# Altium integrated library Microchip dsPIC30F.IntLib: 283 symbols (part 7 of 14)
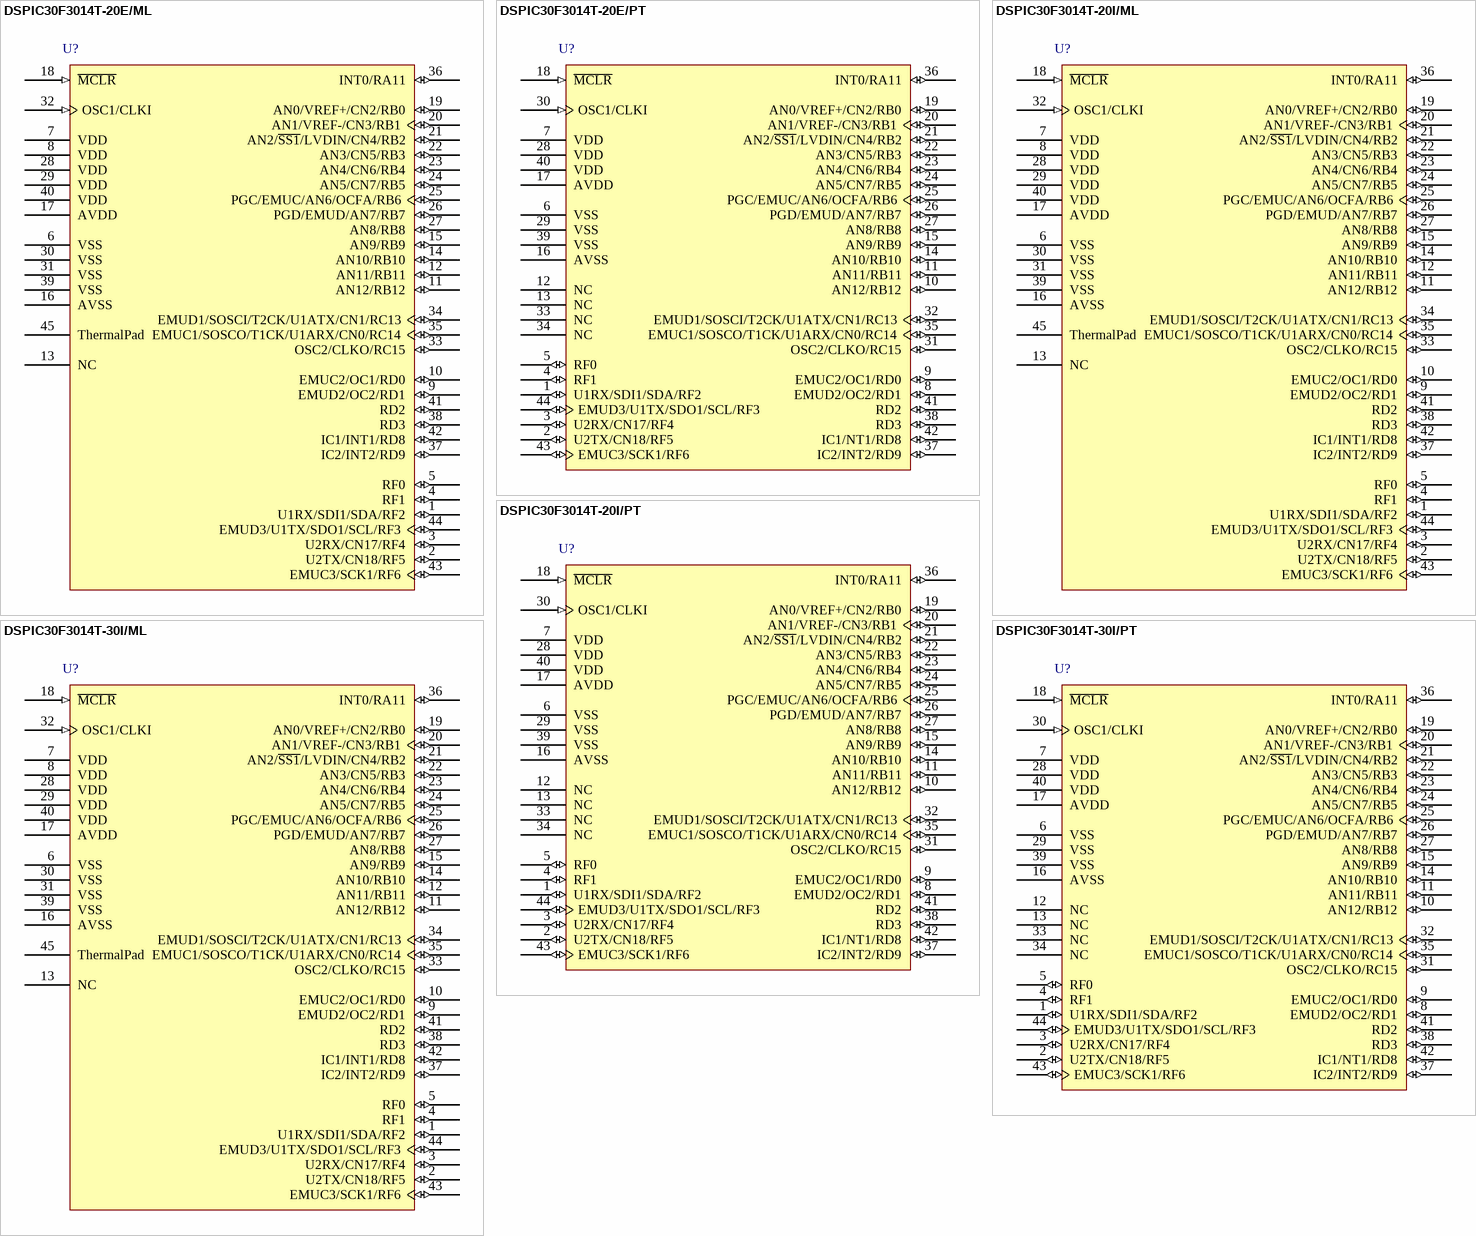
[diagram p53: symbols DSPIC30F3014T-20E/ML to DSPIC30F3014T-30I/PT]

## DSPIC30F3014T-20I/PT
designator U?
High-Performance 16-bit Digital Signal Controller, 24 KB Flash, 2 KB SRAM, 1 KB EEPROM, 44-Pin TQFP, Industrial Temperature, Tape and Reel; Manufacturer: Microchip; PartNumber: DSPIC30F3014T-20I/PT; DatasheetVersion: revF, Apr-2008; PackageVersion: revBB, Aug-2009; PackageReference: TQFP-PT44; PackageDescription: 44-Lead Plastic Thin Quad Flatpack (PT) - 10x10x1mm Body, 2.00mm [TQFP]; Supplier 1: Digi-Key; Supplier Part Number 1: DSPIC30F3014T20IP-ND; Mounting Technology: Surface Mount; Code_JEDEC: MS-026; ComponentLink1Description: Manufacturer URL; ComponentLink1URL: http://www.microchip.com/; ComponentLink2Description: Datasheet; ComponentLink2URL: http://ww1.microchip.com/downloads/en/DeviceDoc/70138F.pdf; ComponentLink3Description: Package Specification; ComponentLink3URL: http://www.microchip.com/stellent/groups/techpub_sg/documents/packagingspec/en012702.pdf
footprint TQFP-PT44_N (Thin QFP, 44-Leads, Body 10x10mm, Pitch 0.8mm, IPC Medium Density)
footprint TQFP-PT44_L (Thin QFP, 44-Leads, Body 10x10mm, Pitch 0.8mm, IPC High Density)
footprint TQFP-PT44_M (Thin QFP, 44-Leads, Body 10x10mm, Pitch 0.8mm, IPC Low Density)
pins: 1 U1RX/SDI1/SDA/RF2 (io), 2 U2TX/CN18/RF5 (io), 3 U2RX/CN17/RF4 (io), 4 RF1 (io), 5 RF0 (io), 6 VSS (power), 7 VDD (power), 8 EMUD2/OC2/RD1 (io), 9 EMUC2/OC1/RD0 (io), 10 AN12/RB12 (io), 11 AN11/RB11 (io), 12 NC, 13 NC, 14 AN10/RB10 (io), 15 AN9/RB9 (io), 16 AVSS (power), 17 AVDD (power), 18 ~{MCLR} (in), 19 AN0/VREF+/CN2/RB0 (io), 20 AN1/VREF-/CN3/RB1 (io), 21 AN2/~{SS1}/LVDIN/CN4/RB2 (io), 22 AN3/CN5/RB3 (io), 23 AN4/CN6/RB4 (io), 24 AN5/CN7/RB5 (io), 25 PGC/EMUC/AN6/OCFA/RB6 (io), 26 PGD/EMUD/AN7/RB7 (io), 27 AN8/RB8 (io), 28 VDD (power), 29 VSS (power), 30 OSC1/CLKI (in), 31 OSC2/CLKO/RC15 (io), 32 EMUD1/SOSCI/T2CK/U1ATX/CN1/RC13 (io), 33 NC, 34 NC, 35 EMUC1/SOSCO/T1CK/U1ARX/CN0/RC14 (io), 36 INT0/RA11 (io), 37 IC2/INT2/RD9 (io), 38 RD3 (io), 39 VSS (power), 40 VDD (power), 41 RD2 (io), 42 IC1/NT1/RD8 (io), 43 EMUC3/SCK1/RF6 (io), 44 EMUD3/U1TX/SDO1/SCL/RF3 (io)

## DSPIC30F3014T-30I/ML
designator U?
High-Performance 16-bit Digital Signal Controller, 24 KB Flash, 2 KB SRAM, 1 KB EEPROM, 44-Pin QFN, Industrial Temperature, Tape and Reel; Manufacturer: Microchip; PartNumber: DSPIC30F3014T-30I/ML; DatasheetVersion: revF, Apr-2008; PackageVersion: revBB, Aug-2009; PackageReference: QFN-ML44; PackageDescription: 44-Lead Plastic Quad Flat, No Lead Package (ML) - 8x8 mm Body [QFN]; Supplier 1: Digi-Key; Supplier Part Number 1: DSPIC30F3014T30IM-ND; Supplier 2: Mouser; Supplier Part Number 2: 579-DS303014T30IML; Mounting Technology: Surface Mount; Code_JEDEC: MO-220; Code_IPC: QFN65P800X800-44V2; ComponentLink1Description: Manufacturer URL; ComponentLink1URL: http://www.microchip.com/; ComponentLink2Description: Datasheet; ComponentLink2URL: http://ww1.microchip.com/downloads/en/DeviceDoc/70138F.pdf; ComponentLink3Description: Package Specification; ComponentLink3URL: http://www.microchip.com/stellent/groups/techpub_sg/documents/packagingspec/en012702.pdf
footprint QFN-ML44_N (QFN, 44-Leads, Body 8x8mm, Pitch 0.65mm, Thermal Pad 6.8x6.8mm, IPC Medium Density)
footprint QFN-ML44_L (QFN, 44-Leads, Body 8x8mm, Pitch 0.65mm, Thermal Pad 6.8x6.8mm, IPC High Density)
footprint QFN-ML44_M (QFN, 44-Leads, Body 8x8mm, Pitch 0.65mm, Thermal Pad 6.8x6.8mm, IPC Low Density)
pins: 1 U1RX/SDI1/SDA/RF2 (io), 2 U2TX/CN18/RF5 (io), 3 U2RX/CN17/RF4 (io), 4 RF1 (io), 5 RF0 (io), 6 VSS (power), 7 VDD (power), 8 VDD (power), 9 EMUD2/OC2/RD1 (io), 10 EMUC2/OC1/RD0 (io), 11 AN12/RB12 (io), 12 AN11/RB11 (io), 13 NC, 14 AN10/RB10 (io), 15 AN9/RB9 (io), 16 AVSS (power), 17 AVDD (power), 18 ~{MCLR} (in), 19 AN0/VREF+/CN2/RB0 (io), 20 AN1/VREF-/CN3/RB1 (io), 21 AN2/~{SS1}/LVDIN/CN4/RB2 (io), 22 AN3/CN5/RB3 (io), 23 AN4/CN6/RB4 (io), 24 AN5/CN7/RB5 (io), 25 PGC/EMUC/AN6/OCFA/RB6 (io), 26 PGD/EMUD/AN7/RB7 (io), 27 AN8/RB8 (io), 28 VDD (power), 29 VDD (power), 30 VSS (power), 31 VSS (power), 32 OSC1/CLKI (in), 33 OSC2/CLKO/RC15 (io), 34 EMUD1/SOSCI/T2CK/U1ATX/CN1/RC13 (io), 35 EMUC1/SOSCO/T1CK/U1ARX/CN0/RC14 (io), 36 INT0/RA11 (io), 37 IC2/INT2/RD9 (io), 38 RD3 (io), 39 VSS (power), 40 VDD (power), 41 RD2 (io), 42 IC1/INT1/RD8 (io), 43 EMUC3/SCK1/RF6 (io), 44 EMUD3/U1TX/SDO1/SCL/RF3 (io), 45 ThermalPad

## DSPIC30F3014T-30I/PT
designator U?
High-Performance 16-bit Digital Signal Controller, 24 KB Flash, 2 KB SRAM, 1 KB EEPROM, 44-Pin TQFP, Industrial Temperature, Tape and Reel; Manufacturer: Microchip; PartNumber: DSPIC30F3014T-30I/PT; DatasheetVersion: revF, Apr-2008; PackageVersion: revBB, Aug-2009; PackageReference: TQFP-PT44; PackageDescription: 44-Lead Plastic Thin Quad Flatpack (PT) - 10x10x1mm Body, 2.00mm [TQFP]; Supplier 1: Digi-Key; Supplier Part Number 1: DSPIC30F3014T30IP-ND; Supplier 2: Mouser; Supplier Part Number 2: 579-DS303014T30IPT; Mounting Technology: Surface Mount; Code_JEDEC: MS-026; ComponentLink1Description: Manufacturer URL; ComponentLink1URL: http://www.microchip.com/; ComponentLink2Description: Datasheet; ComponentLink2URL: http://ww1.microchip.com/downloads/en/DeviceDoc/70138F.pdf; ComponentLink3Description: Package Specification; ComponentLink3URL: http://www.microchip.com/stellent/groups/techpub_sg/documents/packagingspec/en012702.pdf
footprint TQFP-PT44_N (Thin QFP, 44-Leads, Body 10x10mm, Pitch 0.8mm, IPC Medium Density)
footprint TQFP-PT44_L (Thin QFP, 44-Leads, Body 10x10mm, Pitch 0.8mm, IPC High Density)
footprint TQFP-PT44_M (Thin QFP, 44-Leads, Body 10x10mm, Pitch 0.8mm, IPC Low Density)
pins: 1 U1RX/SDI1/SDA/RF2 (io), 2 U2TX/CN18/RF5 (io), 3 U2RX/CN17/RF4 (io), 4 RF1 (io), 5 RF0 (io), 6 VSS (power), 7 VDD (power), 8 EMUD2/OC2/RD1 (io), 9 EMUC2/OC1/RD0 (io), 10 AN12/RB12 (io), 11 AN11/RB11 (io), 12 NC, 13 NC, 14 AN10/RB10 (io), 15 AN9/RB9 (io), 16 AVSS (power), 17 AVDD (power), 18 ~{MCLR} (in), 19 AN0/VREF+/CN2/RB0 (io), 20 AN1/VREF-/CN3/RB1 (io), 21 AN2/~{SS1}/LVDIN/CN4/RB2 (io), 22 AN3/CN5/RB3 (io), 23 AN4/CN6/RB4 (io), 24 AN5/CN7/RB5 (io), 25 PGC/EMUC/AN6/OCFA/RB6 (io), 26 PGD/EMUD/AN7/RB7 (io), 27 AN8/RB8 (io), 28 VDD (power), 29 VSS (power), 30 OSC1/CLKI (in), 31 OSC2/CLKO/RC15 (io), 32 EMUD1/SOSCI/T2CK/U1ATX/CN1/RC13 (io), 33 NC, 34 NC, 35 EMUC1/SOSCO/T1CK/U1ARX/CN0/RC14 (io), 36 INT0/RA11 (io), 37 IC2/INT2/RD9 (io), 38 RD3 (io), 39 VSS (power), 40 VDD (power), 41 RD2 (io), 42 IC1/NT1/RD8 (io), 43 EMUC3/SCK1/RF6 (io), 44 EMUD3/U1TX/SDO1/SCL/RF3 (io)

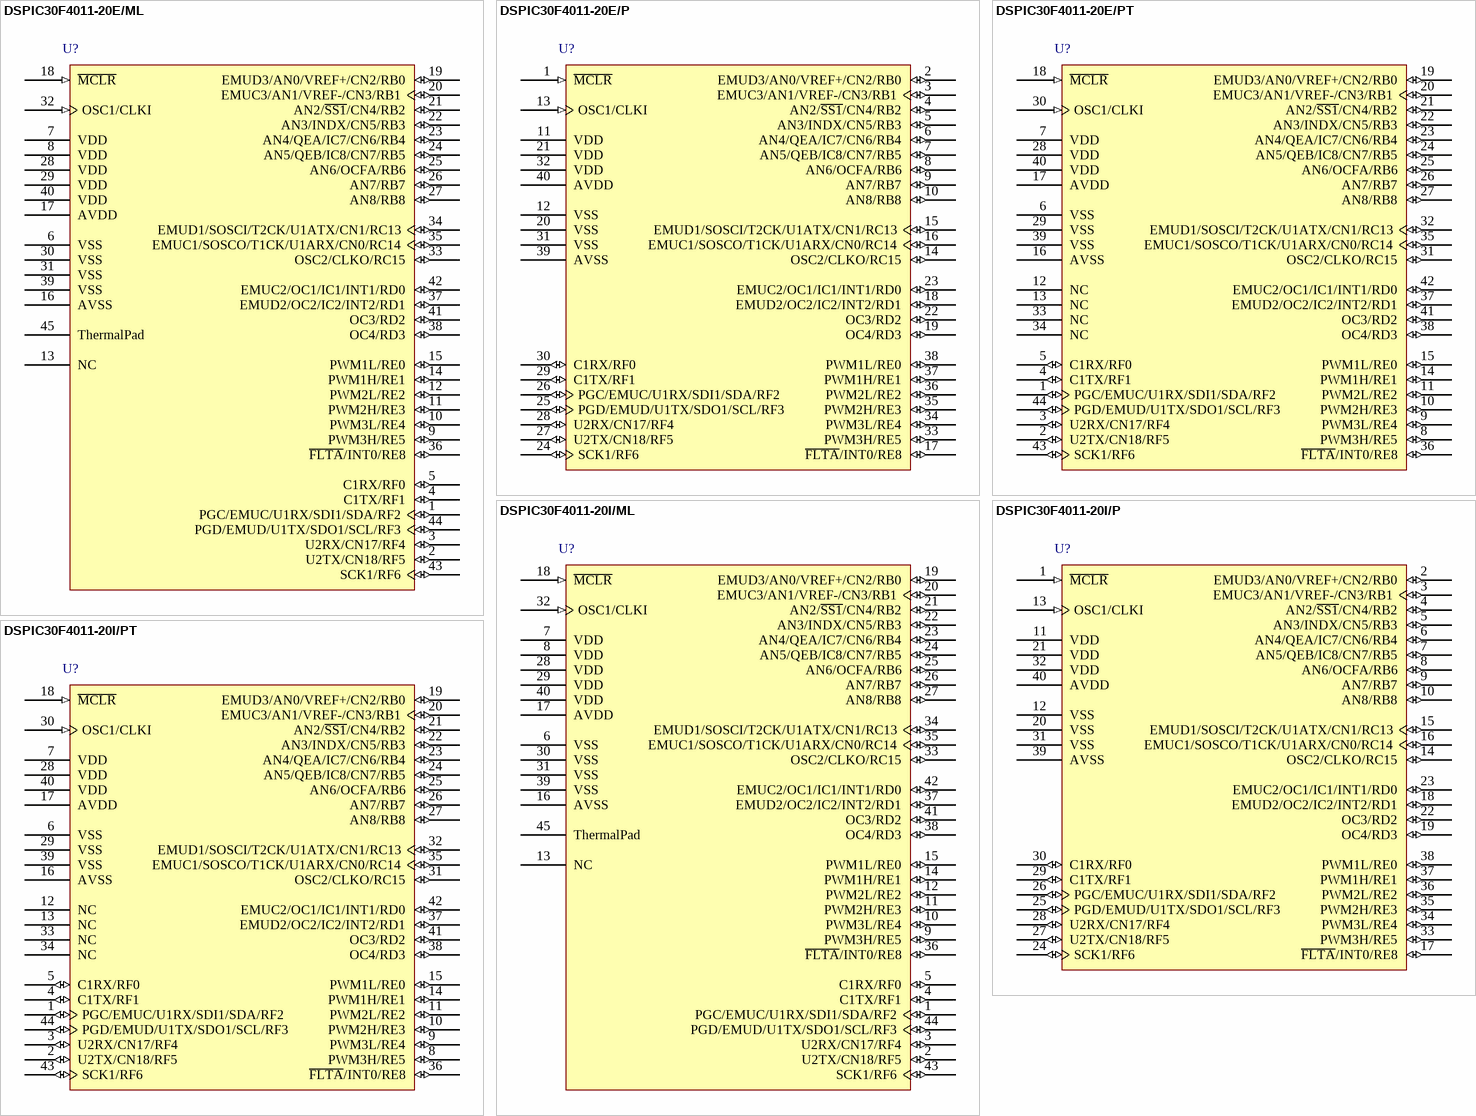
[diagram p19: symbols DSPIC30F4011-20E/ML to DSPIC30F4011-20I/PT]

## DSPIC30F4011-20E/ML
designator U?
High-Performance 16-bit Digital Signal Controller, 48 KB Flash, 2 KB SRAM, 1 KB EEPROM, 44-Pin QFN, Extended High Temperature; Manufacturer: Microchip; PartNumber: DSPIC30F4011-20E/ML; DatasheetVersion: revF, Jul-2008; PackageVersion: revBB, Aug-2009; PackageReference: QFN-ML44; PackageDescription: 44-Lead Plastic Quad Flat, No Lead Package (ML) - 8x8 mm Body [QFN]; Supplier 1: Digi-Key; Supplier Part Number 1: DSPIC30F401120EML-ND; Supplier 2: Newark; Supplier Part Number 2: 56J7036; Supplier 3: Mouser; Supplier Part Number 3: 579-30F4011-20E/ML; Mounting Technology: Surface Mount; Code_JEDEC: MO-220; Code_IPC: QFN65P800X800-44V2; ComponentLink1Description: Manufacturer URL; ComponentLink1URL: http://www.microchip.com/; ComponentLink2Description: Datasheet; ComponentLink2URL: http://ww1.microchip.com/downloads/en/DeviceDoc/70135F.pdf; ComponentLink3Description: Package Specification; ComponentLink3URL: http://www.microchip.com/stellent/groups/techpub_sg/documents/packagingspec/en012702.pdf
footprint QFN-ML44_N (QFN, 44-Leads, Body 8x8mm, Pitch 0.65mm, Thermal Pad 6.8x6.8mm, IPC Medium Density)
footprint QFN-ML44_L (QFN, 44-Leads, Body 8x8mm, Pitch 0.65mm, Thermal Pad 6.8x6.8mm, IPC High Density)
footprint QFN-ML44_M (QFN, 44-Leads, Body 8x8mm, Pitch 0.65mm, Thermal Pad 6.8x6.8mm, IPC Low Density)
pins: 1 PGC/EMUC/U1RX/SDI1/SDA/RF2 (io), 2 U2TX/CN18/RF5 (io), 3 U2RX/CN17/RF4 (io), 4 C1TX/RF1 (io), 5 C1RX/RF0 (io), 6 VSS (power), 7 VDD (power), 8 VDD (power), 9 PWM3H/RE5 (io), 10 PWM3L/RE4 (io), 11 PWM2H/RE3 (io), 12 PWM2L/RE2 (io), 13 NC, 14 PWM1H/RE1 (io), 15 PWM1L/RE0 (io), 16 AVSS (power), 17 AVDD (power), 18 ~{MCLR} (in), 19 EMUD3/AN0/VREF+/CN2/RB0 (io), 20 EMUC3/AN1/VREF-/CN3/RB1 (io), 21 AN2/~{SS1}/CN4/RB2 (io), 22 AN3/INDX/CN5/RB3 (io), 23 AN4/QEA/IC7/CN6/RB4 (io), 24 AN5/QEB/IC8/CN7/RB5 (io), 25 AN6/OCFA/RB6 (io), 26 AN7/RB7 (io), 27 AN8/RB8 (io), 28 VDD (power), 29 VDD (power), 30 VSS (power), 31 VSS (power), 32 OSC1/CLKI (in), 33 OSC2/CLKO/RC15 (io), 34 EMUD1/SOSCI/T2CK/U1ATX/CN1/RC13 (io), 35 EMUC1/SOSCO/T1CK/U1ARX/CN0/RC14 (io), 36 ~{FLTA}/INT0/RE8 (io), 37 EMUD2/OC2/IC2/INT2/RD1 (io), 38 OC4/RD3 (io), 39 VSS (power), 40 VDD (power), 41 OC3/RD2 (io), 42 EMUC2/OC1/IC1/INT1/RD0 (io), 43 SCK1/RF6 (io), 44 PGD/EMUD/U1TX/SDO1/SCL/RF3 (io), 45 ThermalPad

## DSPIC30F4011-20E/P
designator U?
High-Performance 16-bit Digital Signal Controller, 48 KB Flash, 2 KB SRAM, 1 KB EEPROM, 40-Pin PDIP, Extended High Temperature; Manufacturer: Microchip; PartNumber: DSPIC30F4011-20E/P; DatasheetVersion: revF, Jul-2008; PackageVersion: revBB, Aug-2009; PackageReference: PDIP600-P40; PackageDescription: 40-Lead Plastic Dual In-Line (P) - 600 mil Body [PDIP]; Supplier 1: Digi-Key; Supplier Part Number 1: DSPIC30F4011-20EP-ND; Supplier 2: Farnell; Supplier Part Number 2: 1818559; Supplier 3: Newark; Supplier Part Number 3: 56J7037; Supplier 4: Mouser; Supplier Part Number 4: 579-30F4011-20E/P; Mounting Technology: Through Hole; ComponentLink1Description: Manufacturer URL; ComponentLink1URL: http://www.microchip.com/; ComponentLink2Description: Datasheet; ComponentLink2URL: http://ww1.microchip.com/downloads/en/DeviceDoc/70135F.pdf; ComponentLink3Description: Package Specification; ComponentLink3URL: http://www.microchip.com/stellent/groups/techpub_sg/documents/packagingspec/en012702.pdf
footprint PDIP600-P40 (DIP, 40-Leads, Row Spacing 15.24mm, Pitch 2.54mm, Body 51.8x13.5mm)
pins: 1 ~{MCLR} (in), 2 EMUD3/AN0/VREF+/CN2/RB0 (io), 3 EMUC3/AN1/VREF-/CN3/RB1 (io), 4 AN2/~{SS1}/CN4/RB2 (io), 5 AN3/INDX/CN5/RB3 (io), 6 AN4/QEA/IC7/CN6/RB4 (io), 7 AN5/QEB/IC8/CN7/RB5 (io), 8 AN6/OCFA/RB6 (io), 9 AN7/RB7 (io), 10 AN8/RB8 (io), 11 VDD (power), 12 VSS (power), 13 OSC1/CLKI (in), 14 OSC2/CLKO/RC15 (io), 15 EMUD1/SOSCI/T2CK/U1ATX/CN1/RC13 (io), 16 EMUC1/SOSCO/T1CK/U1ARX/CN0/RC14 (io), 17 ~{FLTA}/INT0/RE8 (io), 18 EMUD2/OC2/IC2/INT2/RD1 (io), 19 OC4/RD3 (io), 20 VSS (power), 21 VDD (power), 22 OC3/RD2 (io), 23 EMUC2/OC1/IC1/INT1/RD0 (io), 24 SCK1/RF6 (io), 25 PGD/EMUD/U1TX/SDO1/SCL/RF3 (io), 26 PGC/EMUC/U1RX/SDI1/SDA/RF2 (io), 27 U2TX/CN18/RF5 (io), 28 U2RX/CN17/RF4 (io), 29 C1TX/RF1 (io), 30 C1RX/RF0 (io), 31 VSS (power), 32 VDD (power), 33 PWM3H/RE5 (io), 34 PWM3L/RE4 (io), 35 PWM2H/RE3 (io), 36 PWM2L/RE2 (io), 37 PWM1H/RE1 (io), 38 PWM1L/RE0 (io), 39 AVSS (power), 40 AVDD (power)

## DSPIC30F4011-20E/PT
designator U?
High-Performance 16-bit Digital Signal Controller, 48 KB Flash, 2 KB SRAM, 1 KB EEPROM, 44-Pin TQFP, Extended High Temperature; Manufacturer: Microchip; PartNumber: DSPIC30F4011-20E/PT; DatasheetVersion: revF, Jul-2008; PackageVersion: revBB, Aug-2009; PackageReference: TQFP-PT44; PackageDescription: 44-Lead Plastic Thin Quad Flatpack (PT) - 10x10x1mm Body, 2.00mm [TQFP]; Supplier 1: Digi-Key; Supplier Part Number 1: DSPIC30F401120EPT-ND; Supplier 2: Farnell; Supplier Part Number 2: 1847264; Supplier 3: Newark; Supplier Part Number 3: 56J7038; Supplier 4: Mouser; Supplier Part Number 4: 579-30F4011-20E/PT; Mounting Technology: Surface Mount; Code_JEDEC: MS-026; ComponentLink1Description: Manufacturer URL; ComponentLink1URL: http://www.microchip.com/; ComponentLink2Description: Datasheet; ComponentLink2URL: http://ww1.microchip.com/downloads/en/DeviceDoc/70135F.pdf; ComponentLink3Description: Package Specification; ComponentLink3URL: http://www.microchip.com/stellent/groups/techpub_sg/documents/packagingspec/en012702.pdf
footprint TQFP-PT44_N (Thin QFP, 44-Leads, Body 10x10mm, Pitch 0.8mm, IPC Medium Density)
footprint TQFP-PT44_L (Thin QFP, 44-Leads, Body 10x10mm, Pitch 0.8mm, IPC High Density)
footprint TQFP-PT44_M (Thin QFP, 44-Leads, Body 10x10mm, Pitch 0.8mm, IPC Low Density)
pins: 1 PGC/EMUC/U1RX/SDI1/SDA/RF2 (io), 2 U2TX/CN18/RF5 (io), 3 U2RX/CN17/RF4 (io), 4 C1TX/RF1 (io), 5 C1RX/RF0 (io), 6 VSS (power), 7 VDD (power), 8 PWM3H/RE5 (io), 9 PWM3L/RE4 (io), 10 PWM2H/RE3 (io), 11 PWM2L/RE2 (io), 12 NC, 13 NC, 14 PWM1H/RE1 (io), 15 PWM1L/RE0 (io), 16 AVSS (power), 17 AVDD (power), 18 ~{MCLR} (in), 19 EMUD3/AN0/VREF+/CN2/RB0 (io), 20 EMUC3/AN1/VREF-/CN3/RB1 (io), 21 AN2/~{SS1}/CN4/RB2 (io), 22 AN3/INDX/CN5/RB3 (io), 23 AN4/QEA/IC7/CN6/RB4 (io), 24 AN5/QEB/IC8/CN7/RB5 (io), 25 AN6/OCFA/RB6 (io), 26 AN7/RB7 (io), 27 AN8/RB8 (io), 28 VDD (power), 29 VSS (power), 30 OSC1/CLKI (in), 31 OSC2/CLKO/RC15 (io), 32 EMUD1/SOSCI/T2CK/U1ATX/CN1/RC13 (io), 33 NC, 34 NC, 35 EMUC1/SOSCO/T1CK/U1ARX/CN0/RC14 (io), 36 ~{FLTA}/INT0/RE8 (io), 37 EMUD2/OC2/IC2/INT2/RD1 (io), 38 OC4/RD3 (io), 39 VSS (power), 40 VDD (power), 41 OC3/RD2 (io), 42 EMUC2/OC1/IC1/INT1/RD0 (io), 43 SCK1/RF6 (io), 44 PGD/EMUD/U1TX/SDO1/SCL/RF3 (io)

## DSPIC30F4011-20I/ML
designator U?
High-Performance 16-bit Digital Signal Controller, 48 KB Flash, 2 KB SRAM, 1 KB EEPROM, 44-Pin QFN, Industrial Temperature; Manufacturer: Microchip; PartNumber: DSPIC30F4011-20I/ML; DatasheetVersion: revF, Jul-2008; PackageVersion: revBB, Aug-2009; PackageReference: QFN-ML44; PackageDescription: 44-Lead Plastic Quad Flat, No Lead Package (ML) - 8x8 mm Body [QFN]; Supplier 1: Digi-Key; Supplier Part Number 1: DSPIC30F401120/ML-ND; Supplier 2: Farnell; Supplier Part Number 2: 1439752; Supplier 3: Newark; Supplier Part Number 3: 58M5244; Supplier 4: Newark; Supplier Part Number 4: 56J7039; Supplier 5: Mouser; Supplier Part Number 5: 579-30F4011-20I/ML; Mounting Technology: Surface Mount; Code_JEDEC: MO-220; Code_IPC: QFN65P800X800-44V2; ComponentLink1Description: Manufacturer URL; ComponentLink1URL: http://www.microchip.com/; ComponentLink2Description: Datasheet; ComponentLink2URL: http://ww1.microchip.com/downloads/en/DeviceDoc/70135F.pdf; ComponentLink3Description: Package Specification; ComponentLink3URL: http://www.microchip.com/stellent/groups/techpub_sg/documents/packagingspec/en012702.pdf
footprint QFN-ML44_N (QFN, 44-Leads, Body 8x8mm, Pitch 0.65mm, Thermal Pad 6.8x6.8mm, IPC Medium Density)
footprint QFN-ML44_L (QFN, 44-Leads, Body 8x8mm, Pitch 0.65mm, Thermal Pad 6.8x6.8mm, IPC High Density)
footprint QFN-ML44_M (QFN, 44-Leads, Body 8x8mm, Pitch 0.65mm, Thermal Pad 6.8x6.8mm, IPC Low Density)
pins: 1 PGC/EMUC/U1RX/SDI1/SDA/RF2 (io), 2 U2TX/CN18/RF5 (io), 3 U2RX/CN17/RF4 (io), 4 C1TX/RF1 (io), 5 C1RX/RF0 (io), 6 VSS (power), 7 VDD (power), 8 VDD (power), 9 PWM3H/RE5 (io), 10 PWM3L/RE4 (io), 11 PWM2H/RE3 (io), 12 PWM2L/RE2 (io), 13 NC, 14 PWM1H/RE1 (io), 15 PWM1L/RE0 (io), 16 AVSS (power), 17 AVDD (power), 18 ~{MCLR} (in), 19 EMUD3/AN0/VREF+/CN2/RB0 (io), 20 EMUC3/AN1/VREF-/CN3/RB1 (io), 21 AN2/~{SS1}/CN4/RB2 (io), 22 AN3/INDX/CN5/RB3 (io), 23 AN4/QEA/IC7/CN6/RB4 (io), 24 AN5/QEB/IC8/CN7/RB5 (io), 25 AN6/OCFA/RB6 (io), 26 AN7/RB7 (io), 27 AN8/RB8 (io), 28 VDD (power), 29 VDD (power), 30 VSS (power), 31 VSS (power), 32 OSC1/CLKI (in), 33 OSC2/CLKO/RC15 (io), 34 EMUD1/SOSCI/T2CK/U1ATX/CN1/RC13 (io), 35 EMUC1/SOSCO/T1CK/U1ARX/CN0/RC14 (io), 36 ~{FLTA}/INT0/RE8 (io), 37 EMUD2/OC2/IC2/INT2/RD1 (io), 38 OC4/RD3 (io), 39 VSS (power), 40 VDD (power), 41 OC3/RD2 (io), 42 EMUC2/OC1/IC1/INT1/RD0 (io), 43 SCK1/RF6 (io), 44 PGD/EMUD/U1TX/SDO1/SCL/RF3 (io), 45 ThermalPad

## DSPIC30F4011-20I/P
designator U?
High-Performance 16-bit Digital Signal Controller, 48 KB Flash, 2 KB SRAM, 1 KB EEPROM, 40-Pin PDIP, Industrial Temperature; Manufacturer: Microchip; PartNumber: DSPIC30F4011-20I/P; DatasheetVersion: revF, Jul-2008; PackageVersion: revBB, Aug-2009; PackageReference: PDIP600-P40; PackageDescription: 40-Lead Plastic Dual In-Line (P) - 600 mil Body [PDIP]; Supplier 1: Digi-Key; Supplier Part Number 1: DSPIC30F4011-20IP-ND; Supplier 2: Newark; Supplier Part Number 2: 56J7040; Supplier 3: Mouser; Supplier Part Number 3: 579-30F4011-20I/P; Mounting Technology: Through Hole; ComponentLink1Description: Manufacturer URL; ComponentLink1URL: http://www.microchip.com/; ComponentLink2Description: Datasheet; ComponentLink2URL: http://ww1.microchip.com/downloads/en/DeviceDoc/70135F.pdf; ComponentLink3Description: Package Specification; ComponentLink3URL: http://www.microchip.com/stellent/groups/techpub_sg/documents/packagingspec/en012702.pdf
footprint PDIP600-P40 (DIP, 40-Leads, Row Spacing 15.24mm, Pitch 2.54mm, Body 51.8x13.5mm)
pins: 1 ~{MCLR} (in), 2 EMUD3/AN0/VREF+/CN2/RB0 (io), 3 EMUC3/AN1/VREF-/CN3/RB1 (io), 4 AN2/~{SS1}/CN4/RB2 (io), 5 AN3/INDX/CN5/RB3 (io), 6 AN4/QEA/IC7/CN6/RB4 (io), 7 AN5/QEB/IC8/CN7/RB5 (io), 8 AN6/OCFA/RB6 (io), 9 AN7/RB7 (io), 10 AN8/RB8 (io), 11 VDD (power), 12 VSS (power), 13 OSC1/CLKI (in), 14 OSC2/CLKO/RC15 (io), 15 EMUD1/SOSCI/T2CK/U1ATX/CN1/RC13 (io), 16 EMUC1/SOSCO/T1CK/U1ARX/CN0/RC14 (io), 17 ~{FLTA}/INT0/RE8 (io), 18 EMUD2/OC2/IC2/INT2/RD1 (io), 19 OC4/RD3 (io), 20 VSS (power), 21 VDD (power), 22 OC3/RD2 (io), 23 EMUC2/OC1/IC1/INT1/RD0 (io), 24 SCK1/RF6 (io), 25 PGD/EMUD/U1TX/SDO1/SCL/RF3 (io), 26 PGC/EMUC/U1RX/SDI1/SDA/RF2 (io), 27 U2TX/CN18/RF5 (io), 28 U2RX/CN17/RF4 (io), 29 C1TX/RF1 (io), 30 C1RX/RF0 (io), 31 VSS (power), 32 VDD (power), 33 PWM3H/RE5 (io), 34 PWM3L/RE4 (io), 35 PWM2H/RE3 (io), 36 PWM2L/RE2 (io), 37 PWM1H/RE1 (io), 38 PWM1L/RE0 (io), 39 AVSS (power), 40 AVDD (power)

## DSPIC30F4011-20I/PT
designator U?
High-Performance 16-bit Digital Signal Controller, 48 KB Flash, 2 KB SRAM, 1 KB EEPROM, 44-Pin TQFP, Industrial Temperature; Manufacturer: Microchip; PartNumber: DSPIC30F4011-20I/PT; DatasheetVersion: revF, Jul-2008; PackageVersion: revBB, Aug-2009; PackageReference: TQFP-PT44; PackageDescription: 44-Lead Plastic Thin Quad Flatpack (PT) - 10x10x1mm Body, 2.00mm [TQFP]; Supplier 1: Digi-Key; Supplier Part Number 1: DSPIC30F401120IPT-ND; Supplier 2: Newark; Supplier Part Number 2: 56J7041; Supplier 3: Mouser; Supplier Part Number 3: 579-30F4011-20I/PT; Mounting Technology: Surface Mount; Code_JEDEC: MS-026; ComponentLink1Description: Manufacturer URL; ComponentLink1URL: http://www.microchip.com/; ComponentLink2Description: Datasheet; ComponentLink2URL: http://ww1.microchip.com/downloads/en/DeviceDoc/70135F.pdf; ComponentLink3Description: Package Specification; ComponentLink3URL: http://www.microchip.com/stellent/groups/techpub_sg/documents/packagingspec/en012702.pdf
footprint TQFP-PT44_N (Thin QFP, 44-Leads, Body 10x10mm, Pitch 0.8mm, IPC Medium Density)
footprint TQFP-PT44_L (Thin QFP, 44-Leads, Body 10x10mm, Pitch 0.8mm, IPC High Density)
footprint TQFP-PT44_M (Thin QFP, 44-Leads, Body 10x10mm, Pitch 0.8mm, IPC Low Density)
pins: 1 PGC/EMUC/U1RX/SDI1/SDA/RF2 (io), 2 U2TX/CN18/RF5 (io), 3 U2RX/CN17/RF4 (io), 4 C1TX/RF1 (io), 5 C1RX/RF0 (io), 6 VSS (power), 7 VDD (power), 8 PWM3H/RE5 (io), 9 PWM3L/RE4 (io), 10 PWM2H/RE3 (io), 11 PWM2L/RE2 (io), 12 NC, 13 NC, 14 PWM1H/RE1 (io), 15 PWM1L/RE0 (io), 16 AVSS (power), 17 AVDD (power), 18 ~{MCLR} (in), 19 EMUD3/AN0/VREF+/CN2/RB0 (io), 20 EMUC3/AN1/VREF-/CN3/RB1 (io), 21 AN2/~{SS1}/CN4/RB2 (io), 22 AN3/INDX/CN5/RB3 (io), 23 AN4/QEA/IC7/CN6/RB4 (io), 24 AN5/QEB/IC8/CN7/RB5 (io), 25 AN6/OCFA/RB6 (io), 26 AN7/RB7 (io), 27 AN8/RB8 (io), 28 VDD (power), 29 VSS (power), 30 OSC1/CLKI (in), 31 OSC2/CLKO/RC15 (io), 32 EMUD1/SOSCI/T2CK/U1ATX/CN1/RC13 (io), 33 NC, 34 NC, 35 EMUC1/SOSCO/T1CK/U1ARX/CN0/RC14 (io), 36 ~{FLTA}/INT0/RE8 (io), 37 EMUD2/OC2/IC2/INT2/RD1 (io), 38 OC4/RD3 (io), 39 VSS (power), 40 VDD (power), 41 OC3/RD2 (io), 42 EMUC2/OC1/IC1/INT1/RD0 (io), 43 SCK1/RF6 (io), 44 PGD/EMUD/U1TX/SDO1/SCL/RF3 (io)

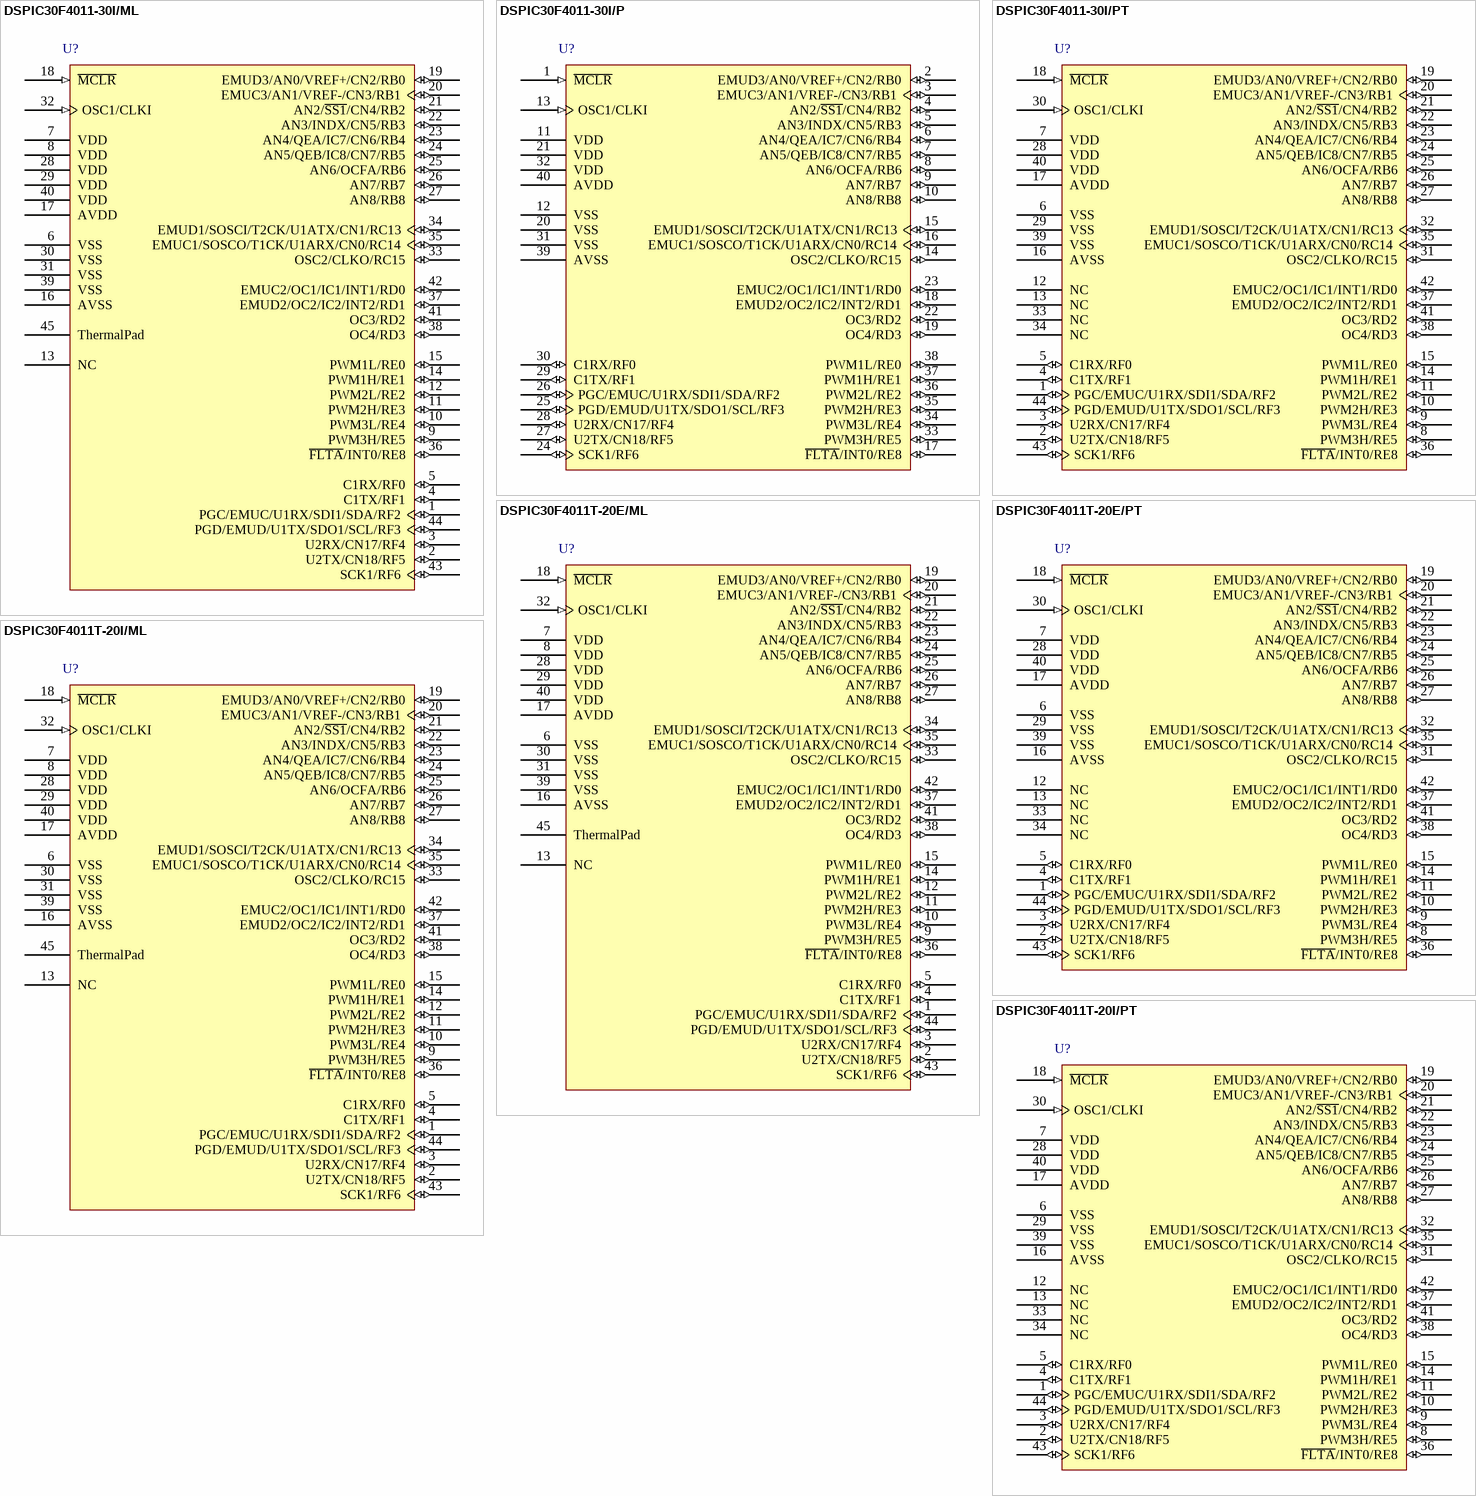
[diagram p20: symbols DSPIC30F4011-30I/ML to DSPIC30F4011T-20I/PT]

## DSPIC30F4011-30I/ML
designator U?
High-Performance 16-bit Digital Signal Controller, 48 KB Flash, 2 KB SRAM, 1 KB EEPROM, 44-Pin QFN, Industrial Temperature; Manufacturer: Microchip; PartNumber: DSPIC30F4011-30I/ML; DatasheetVersion: revF, Jul-2008; PackageVersion: revBB, Aug-2009; PackageReference: QFN-ML44; PackageDescription: 44-Lead Plastic Quad Flat, No Lead Package (ML) - 8x8 mm Body [QFN]; Supplier 1: Digi-Key; Supplier Part Number 1: DSPIC30F401130IML-ND; Supplier 2: Newark; Supplier Part Number 2: 56J7042; Supplier 3: Mouser; Supplier Part Number 3: 579-30F4011-30I/ML; Mounting Technology: Surface Mount; Code_JEDEC: MO-220; Code_IPC: QFN65P800X800-44V2; ComponentLink1Description: Manufacturer URL; ComponentLink1URL: http://www.microchip.com/; ComponentLink2Description: Datasheet; ComponentLink2URL: http://ww1.microchip.com/downloads/en/DeviceDoc/70135F.pdf; ComponentLink3Description: Package Specification; ComponentLink3URL: http://www.microchip.com/stellent/groups/techpub_sg/documents/packagingspec/en012702.pdf
footprint QFN-ML44_N (QFN, 44-Leads, Body 8x8mm, Pitch 0.65mm, Thermal Pad 6.8x6.8mm, IPC Medium Density)
footprint QFN-ML44_L (QFN, 44-Leads, Body 8x8mm, Pitch 0.65mm, Thermal Pad 6.8x6.8mm, IPC High Density)
footprint QFN-ML44_M (QFN, 44-Leads, Body 8x8mm, Pitch 0.65mm, Thermal Pad 6.8x6.8mm, IPC Low Density)
pins: 1 PGC/EMUC/U1RX/SDI1/SDA/RF2 (io), 2 U2TX/CN18/RF5 (io), 3 U2RX/CN17/RF4 (io), 4 C1TX/RF1 (io), 5 C1RX/RF0 (io), 6 VSS (power), 7 VDD (power), 8 VDD (power), 9 PWM3H/RE5 (io), 10 PWM3L/RE4 (io), 11 PWM2H/RE3 (io), 12 PWM2L/RE2 (io), 13 NC, 14 PWM1H/RE1 (io), 15 PWM1L/RE0 (io), 16 AVSS (power), 17 AVDD (power), 18 ~{MCLR} (in), 19 EMUD3/AN0/VREF+/CN2/RB0 (io), 20 EMUC3/AN1/VREF-/CN3/RB1 (io), 21 AN2/~{SS1}/CN4/RB2 (io), 22 AN3/INDX/CN5/RB3 (io), 23 AN4/QEA/IC7/CN6/RB4 (io), 24 AN5/QEB/IC8/CN7/RB5 (io), 25 AN6/OCFA/RB6 (io), 26 AN7/RB7 (io), 27 AN8/RB8 (io), 28 VDD (power), 29 VDD (power), 30 VSS (power), 31 VSS (power), 32 OSC1/CLKI (in), 33 OSC2/CLKO/RC15 (io), 34 EMUD1/SOSCI/T2CK/U1ATX/CN1/RC13 (io), 35 EMUC1/SOSCO/T1CK/U1ARX/CN0/RC14 (io), 36 ~{FLTA}/INT0/RE8 (io), 37 EMUD2/OC2/IC2/INT2/RD1 (io), 38 OC4/RD3 (io), 39 VSS (power), 40 VDD (power), 41 OC3/RD2 (io), 42 EMUC2/OC1/IC1/INT1/RD0 (io), 43 SCK1/RF6 (io), 44 PGD/EMUD/U1TX/SDO1/SCL/RF3 (io), 45 ThermalPad

## DSPIC30F4011-30I/P
designator U?
High-Performance 16-bit Digital Signal Controller, 48 KB Flash, 2 KB SRAM, 1 KB EEPROM, 40-Pin PDIP, Industrial Temperature; Manufacturer: Microchip; PartNumber: DSPIC30F4011-30I/P; DatasheetVersion: revF, Jul-2008; PackageVersion: revBB, Aug-2009; PackageReference: PDIP600-P40; PackageDescription: 40-Lead Plastic Dual In-Line (P) - 600 mil Body [PDIP]; Supplier 1: Digi-Key; Supplier Part Number 1: DSPIC30F4011-30IP-ND; Supplier 2: Farnell; Supplier Part Number 2: 1439598; Supplier 3: Newark; Supplier Part Number 3: 68K3309; Supplier 4: Mouser; Supplier Part Number 4: 579-30F4011-30I/P; Mounting Technology: Through Hole; ComponentLink1Description: Manufacturer URL; ComponentLink1URL: http://www.microchip.com/; ComponentLink2Description: Datasheet; ComponentLink2URL: http://ww1.microchip.com/downloads/en/DeviceDoc/70135F.pdf; ComponentLink3Description: Package Specification; ComponentLink3URL: http://www.microchip.com/stellent/groups/techpub_sg/documents/packagingspec/en012702.pdf
footprint PDIP600-P40 (DIP, 40-Leads, Row Spacing 15.24mm, Pitch 2.54mm, Body 51.8x13.5mm)
pins: 1 ~{MCLR} (in), 2 EMUD3/AN0/VREF+/CN2/RB0 (io), 3 EMUC3/AN1/VREF-/CN3/RB1 (io), 4 AN2/~{SS1}/CN4/RB2 (io), 5 AN3/INDX/CN5/RB3 (io), 6 AN4/QEA/IC7/CN6/RB4 (io), 7 AN5/QEB/IC8/CN7/RB5 (io), 8 AN6/OCFA/RB6 (io), 9 AN7/RB7 (io), 10 AN8/RB8 (io), 11 VDD (power), 12 VSS (power), 13 OSC1/CLKI (in), 14 OSC2/CLKO/RC15 (io), 15 EMUD1/SOSCI/T2CK/U1ATX/CN1/RC13 (io), 16 EMUC1/SOSCO/T1CK/U1ARX/CN0/RC14 (io), 17 ~{FLTA}/INT0/RE8 (io), 18 EMUD2/OC2/IC2/INT2/RD1 (io), 19 OC4/RD3 (io), 20 VSS (power), 21 VDD (power), 22 OC3/RD2 (io), 23 EMUC2/OC1/IC1/INT1/RD0 (io), 24 SCK1/RF6 (io), 25 PGD/EMUD/U1TX/SDO1/SCL/RF3 (io), 26 PGC/EMUC/U1RX/SDI1/SDA/RF2 (io), 27 U2TX/CN18/RF5 (io), 28 U2RX/CN17/RF4 (io), 29 C1TX/RF1 (io), 30 C1RX/RF0 (io), 31 VSS (power), 32 VDD (power), 33 PWM3H/RE5 (io), 34 PWM3L/RE4 (io), 35 PWM2H/RE3 (io), 36 PWM2L/RE2 (io), 37 PWM1H/RE1 (io), 38 PWM1L/RE0 (io), 39 AVSS (power), 40 AVDD (power)

## DSPIC30F4011-30I/PT
designator U?
High-Performance 16-bit Digital Signal Controller, 48 KB Flash, 2 KB SRAM, 1 KB EEPROM, 44-Pin TQFP, Industrial Temperature; Manufacturer: Microchip; PartNumber: DSPIC30F4011-30I/PT; DatasheetVersion: revF, Jul-2008; PackageVersion: revBB, Aug-2009; PackageReference: TQFP-PT44; PackageDescription: 44-Lead Plastic Thin Quad Flatpack (PT) - 10x10x1mm Body, 2.00mm [TQFP]; Supplier 1: Digi-Key; Supplier Part Number 1: DSPIC30F401130IPT-ND; Supplier 2: Newark; Supplier Part Number 2: 56J7044; Supplier 3: Mouser; Supplier Part Number 3: 579-30F4011-30I/PT; Mounting Technology: Surface Mount; Code_JEDEC: MS-026; ComponentLink1Description: Manufacturer URL; ComponentLink1URL: http://www.microchip.com/; ComponentLink2Description: Datasheet; ComponentLink2URL: http://ww1.microchip.com/downloads/en/DeviceDoc/70135F.pdf; ComponentLink3Description: Package Specification; ComponentLink3URL: http://www.microchip.com/stellent/groups/techpub_sg/documents/packagingspec/en012702.pdf
footprint TQFP-PT44_N (Thin QFP, 44-Leads, Body 10x10mm, Pitch 0.8mm, IPC Medium Density)
footprint TQFP-PT44_L (Thin QFP, 44-Leads, Body 10x10mm, Pitch 0.8mm, IPC High Density)
footprint TQFP-PT44_M (Thin QFP, 44-Leads, Body 10x10mm, Pitch 0.8mm, IPC Low Density)
pins: 1 PGC/EMUC/U1RX/SDI1/SDA/RF2 (io), 2 U2TX/CN18/RF5 (io), 3 U2RX/CN17/RF4 (io), 4 C1TX/RF1 (io), 5 C1RX/RF0 (io), 6 VSS (power), 7 VDD (power), 8 PWM3H/RE5 (io), 9 PWM3L/RE4 (io), 10 PWM2H/RE3 (io), 11 PWM2L/RE2 (io), 12 NC, 13 NC, 14 PWM1H/RE1 (io), 15 PWM1L/RE0 (io), 16 AVSS (power), 17 AVDD (power), 18 ~{MCLR} (in), 19 EMUD3/AN0/VREF+/CN2/RB0 (io), 20 EMUC3/AN1/VREF-/CN3/RB1 (io), 21 AN2/~{SS1}/CN4/RB2 (io), 22 AN3/INDX/CN5/RB3 (io), 23 AN4/QEA/IC7/CN6/RB4 (io), 24 AN5/QEB/IC8/CN7/RB5 (io), 25 AN6/OCFA/RB6 (io), 26 AN7/RB7 (io), 27 AN8/RB8 (io), 28 VDD (power), 29 VSS (power), 30 OSC1/CLKI (in), 31 OSC2/CLKO/RC15 (io), 32 EMUD1/SOSCI/T2CK/U1ATX/CN1/RC13 (io), 33 NC, 34 NC, 35 EMUC1/SOSCO/T1CK/U1ARX/CN0/RC14 (io), 36 ~{FLTA}/INT0/RE8 (io), 37 EMUD2/OC2/IC2/INT2/RD1 (io), 38 OC4/RD3 (io), 39 VSS (power), 40 VDD (power), 41 OC3/RD2 (io), 42 EMUC2/OC1/IC1/INT1/RD0 (io), 43 SCK1/RF6 (io), 44 PGD/EMUD/U1TX/SDO1/SCL/RF3 (io)

## DSPIC30F4011T-20E/ML
designator U?
High-Performance 16-bit Digital Signal Controller, 48 KB Flash, 2 KB SRAM, 1 KB EEPROM, 44-Pin QFN, Extended High Temperature, Tape and Reel; Manufacturer: Microchip; PartNumber: DSPIC30F4011T-20E/ML; DatasheetVersion: revF, Jul-2008; PackageVersion: revBB, Aug-2009; PackageReference: QFN-ML44; PackageDescription: 44-Lead Plastic Quad Flat, No Lead Package (ML) - 8x8 mm Body [QFN]; Supplier 1: Digi-Key; Supplier Part Number 1: DSPIC30F4011T-20E/ML-ND; Supplier 2: Mouser; Supplier Part Number 2: 579-30F4011T-20E/ML; Mounting Technology: Surface Mount; Code_JEDEC: MO-220; Code_IPC: QFN65P800X800-44V2; ComponentLink1Description: Manufacturer URL; ComponentLink1URL: http://www.microchip.com/; ComponentLink2Description: Datasheet; ComponentLink2URL: http://ww1.microchip.com/downloads/en/DeviceDoc/70135F.pdf; ComponentLink3Description: Package Specification; ComponentLink3URL: http://www.microchip.com/stellent/groups/techpub_sg/documents/packagingspec/en012702.pdf
footprint QFN-ML44_N (QFN, 44-Leads, Body 8x8mm, Pitch 0.65mm, Thermal Pad 6.8x6.8mm, IPC Medium Density)
footprint QFN-ML44_L (QFN, 44-Leads, Body 8x8mm, Pitch 0.65mm, Thermal Pad 6.8x6.8mm, IPC High Density)
footprint QFN-ML44_M (QFN, 44-Leads, Body 8x8mm, Pitch 0.65mm, Thermal Pad 6.8x6.8mm, IPC Low Density)
pins: 1 PGC/EMUC/U1RX/SDI1/SDA/RF2 (io), 2 U2TX/CN18/RF5 (io), 3 U2RX/CN17/RF4 (io), 4 C1TX/RF1 (io), 5 C1RX/RF0 (io), 6 VSS (power), 7 VDD (power), 8 VDD (power), 9 PWM3H/RE5 (io), 10 PWM3L/RE4 (io), 11 PWM2H/RE3 (io), 12 PWM2L/RE2 (io), 13 NC, 14 PWM1H/RE1 (io), 15 PWM1L/RE0 (io), 16 AVSS (power), 17 AVDD (power), 18 ~{MCLR} (in), 19 EMUD3/AN0/VREF+/CN2/RB0 (io), 20 EMUC3/AN1/VREF-/CN3/RB1 (io), 21 AN2/~{SS1}/CN4/RB2 (io), 22 AN3/INDX/CN5/RB3 (io), 23 AN4/QEA/IC7/CN6/RB4 (io), 24 AN5/QEB/IC8/CN7/RB5 (io), 25 AN6/OCFA/RB6 (io), 26 AN7/RB7 (io), 27 AN8/RB8 (io), 28 VDD (power), 29 VDD (power), 30 VSS (power), 31 VSS (power), 32 OSC1/CLKI (in), 33 OSC2/CLKO/RC15 (io), 34 EMUD1/SOSCI/T2CK/U1ATX/CN1/RC13 (io), 35 EMUC1/SOSCO/T1CK/U1ARX/CN0/RC14 (io), 36 ~{FLTA}/INT0/RE8 (io), 37 EMUD2/OC2/IC2/INT2/RD1 (io), 38 OC4/RD3 (io), 39 VSS (power), 40 VDD (power), 41 OC3/RD2 (io), 42 EMUC2/OC1/IC1/INT1/RD0 (io), 43 SCK1/RF6 (io), 44 PGD/EMUD/U1TX/SDO1/SCL/RF3 (io), 45 ThermalPad

## DSPIC30F4011T-20E/PT
designator U?
High-Performance 16-bit Digital Signal Controller, 48 KB Flash, 2 KB SRAM, 1 KB EEPROM, 44-Pin TQFP, Extended High Temperature, Tape and Reel; Manufacturer: Microchip; PartNumber: DSPIC30F4011T-20E/PT; DatasheetVersion: revF, Jul-2008; PackageVersion: revBB, Aug-2009; PackageReference: TQFP-PT44; PackageDescription: 44-Lead Plastic Thin Quad Flatpack (PT) - 10x10x1mm Body, 2.00mm [TQFP]; Supplier 1: Digi-Key; Supplier Part Number 1: DSPIC30F4011T20EP-ND; Supplier 2: Mouser; Supplier Part Number 2: 579-30F4011T-20E/PT; Mounting Technology: Surface Mount; Code_JEDEC: MS-026; ComponentLink1Description: Manufacturer URL; ComponentLink1URL: http://www.microchip.com/; ComponentLink2Description: Datasheet; ComponentLink2URL: http://ww1.microchip.com/downloads/en/DeviceDoc/70135F.pdf; ComponentLink3Description: Package Specification; ComponentLink3URL: http://www.microchip.com/stellent/groups/techpub_sg/documents/packagingspec/en012702.pdf
footprint TQFP-PT44_N (Thin QFP, 44-Leads, Body 10x10mm, Pitch 0.8mm, IPC Medium Density)
footprint TQFP-PT44_L (Thin QFP, 44-Leads, Body 10x10mm, Pitch 0.8mm, IPC High Density)
footprint TQFP-PT44_M (Thin QFP, 44-Leads, Body 10x10mm, Pitch 0.8mm, IPC Low Density)
pins: 1 PGC/EMUC/U1RX/SDI1/SDA/RF2 (io), 2 U2TX/CN18/RF5 (io), 3 U2RX/CN17/RF4 (io), 4 C1TX/RF1 (io), 5 C1RX/RF0 (io), 6 VSS (power), 7 VDD (power), 8 PWM3H/RE5 (io), 9 PWM3L/RE4 (io), 10 PWM2H/RE3 (io), 11 PWM2L/RE2 (io), 12 NC, 13 NC, 14 PWM1H/RE1 (io), 15 PWM1L/RE0 (io), 16 AVSS (power), 17 AVDD (power), 18 ~{MCLR} (in), 19 EMUD3/AN0/VREF+/CN2/RB0 (io), 20 EMUC3/AN1/VREF-/CN3/RB1 (io), 21 AN2/~{SS1}/CN4/RB2 (io), 22 AN3/INDX/CN5/RB3 (io), 23 AN4/QEA/IC7/CN6/RB4 (io), 24 AN5/QEB/IC8/CN7/RB5 (io), 25 AN6/OCFA/RB6 (io), 26 AN7/RB7 (io), 27 AN8/RB8 (io), 28 VDD (power), 29 VSS (power), 30 OSC1/CLKI (in), 31 OSC2/CLKO/RC15 (io), 32 EMUD1/SOSCI/T2CK/U1ATX/CN1/RC13 (io), 33 NC, 34 NC, 35 EMUC1/SOSCO/T1CK/U1ARX/CN0/RC14 (io), 36 ~{FLTA}/INT0/RE8 (io), 37 EMUD2/OC2/IC2/INT2/RD1 (io), 38 OC4/RD3 (io), 39 VSS (power), 40 VDD (power), 41 OC3/RD2 (io), 42 EMUC2/OC1/IC1/INT1/RD0 (io), 43 SCK1/RF6 (io), 44 PGD/EMUD/U1TX/SDO1/SCL/RF3 (io)

## DSPIC30F4011T-20I/ML
designator U?
High-Performance 16-bit Digital Signal Controller, 48 KB Flash, 2 KB SRAM, 1 KB EEPROM, 44-Pin QFN, Industrial Temperature, Tape and Reel; Manufacturer: Microchip; PartNumber: DSPIC30F4011T-20I/ML; DatasheetVersion: revF, Jul-2008; PackageVersion: revBB, Aug-2009; PackageReference: QFN-ML44; PackageDescription: 44-Lead Plastic Quad Flat, No Lead Package (ML) - 8x8 mm Body [QFN]; Supplier 1: Digi-Key; Supplier Part Number 1: DSPIC30F4011T20IM-ND; Supplier 2: Mouser; Supplier Part Number 2: 579-30F4011T-20I/ML; Mounting Technology: Surface Mount; Code_JEDEC: MO-220; Code_IPC: QFN65P800X800-44V2; ComponentLink1Description: Manufacturer URL; ComponentLink1URL: http://www.microchip.com/; ComponentLink2Description: Datasheet; ComponentLink2URL: http://ww1.microchip.com/downloads/en/DeviceDoc/70135F.pdf; ComponentLink3Description: Package Specification; ComponentLink3URL: http://www.microchip.com/stellent/groups/techpub_sg/documents/packagingspec/en012702.pdf
footprint QFN-ML44_N (QFN, 44-Leads, Body 8x8mm, Pitch 0.65mm, Thermal Pad 6.8x6.8mm, IPC Medium Density)
footprint QFN-ML44_L (QFN, 44-Leads, Body 8x8mm, Pitch 0.65mm, Thermal Pad 6.8x6.8mm, IPC High Density)
footprint QFN-ML44_M (QFN, 44-Leads, Body 8x8mm, Pitch 0.65mm, Thermal Pad 6.8x6.8mm, IPC Low Density)
pins: 1 PGC/EMUC/U1RX/SDI1/SDA/RF2 (io), 2 U2TX/CN18/RF5 (io), 3 U2RX/CN17/RF4 (io), 4 C1TX/RF1 (io), 5 C1RX/RF0 (io), 6 VSS (power), 7 VDD (power), 8 VDD (power), 9 PWM3H/RE5 (io), 10 PWM3L/RE4 (io), 11 PWM2H/RE3 (io), 12 PWM2L/RE2 (io), 13 NC, 14 PWM1H/RE1 (io), 15 PWM1L/RE0 (io), 16 AVSS (power), 17 AVDD (power), 18 ~{MCLR} (in), 19 EMUD3/AN0/VREF+/CN2/RB0 (io), 20 EMUC3/AN1/VREF-/CN3/RB1 (io), 21 AN2/~{SS1}/CN4/RB2 (io), 22 AN3/INDX/CN5/RB3 (io), 23 AN4/QEA/IC7/CN6/RB4 (io), 24 AN5/QEB/IC8/CN7/RB5 (io), 25 AN6/OCFA/RB6 (io), 26 AN7/RB7 (io), 27 AN8/RB8 (io), 28 VDD (power), 29 VDD (power), 30 VSS (power), 31 VSS (power), 32 OSC1/CLKI (in), 33 OSC2/CLKO/RC15 (io), 34 EMUD1/SOSCI/T2CK/U1ATX/CN1/RC13 (io), 35 EMUC1/SOSCO/T1CK/U1ARX/CN0/RC14 (io), 36 ~{FLTA}/INT0/RE8 (io), 37 EMUD2/OC2/IC2/INT2/RD1 (io), 38 OC4/RD3 (io), 39 VSS (power), 40 VDD (power), 41 OC3/RD2 (io), 42 EMUC2/OC1/IC1/INT1/RD0 (io), 43 SCK1/RF6 (io), 44 PGD/EMUD/U1TX/SDO1/SCL/RF3 (io), 45 ThermalPad

## DSPIC30F4011T-20I/PT
designator U?
High-Performance 16-bit Digital Signal Controller, 48 KB Flash, 2 KB SRAM, 1 KB EEPROM, 44-Pin TQFP, Industrial Temperature, Tape and Reel; Manufacturer: Microchip; PartNumber: DSPIC30F4011T-20I/PT; DatasheetVersion: revF, Jul-2008; PackageVersion: revBB, Aug-2009; PackageReference: TQFP-PT44; PackageDescription: 44-Lead Plastic Thin Quad Flatpack (PT) - 10x10x1mm Body, 2.00mm [TQFP]; Supplier 1: Digi-Key; Supplier Part Number 1: DSPIC30F4011T20IP-ND; Supplier 2: Mouser; Supplier Part Number 2: 579-30F4011T-20I/PT; Mounting Technology: Surface Mount; Code_JEDEC: MS-026; ComponentLink1Description: Manufacturer URL; ComponentLink1URL: http://www.microchip.com/; ComponentLink2Description: Datasheet; ComponentLink2URL: http://ww1.microchip.com/downloads/en/DeviceDoc/70135F.pdf; ComponentLink3Description: Package Specification; ComponentLink3URL: http://www.microchip.com/stellent/groups/techpub_sg/documents/packagingspec/en012702.pdf
footprint TQFP-PT44_N (Thin QFP, 44-Leads, Body 10x10mm, Pitch 0.8mm, IPC Medium Density)
footprint TQFP-PT44_L (Thin QFP, 44-Leads, Body 10x10mm, Pitch 0.8mm, IPC High Density)
footprint TQFP-PT44_M (Thin QFP, 44-Leads, Body 10x10mm, Pitch 0.8mm, IPC Low Density)
pins: 1 PGC/EMUC/U1RX/SDI1/SDA/RF2 (io), 2 U2TX/CN18/RF5 (io), 3 U2RX/CN17/RF4 (io), 4 C1TX/RF1 (io), 5 C1RX/RF0 (io), 6 VSS (power), 7 VDD (power), 8 PWM3H/RE5 (io), 9 PWM3L/RE4 (io), 10 PWM2H/RE3 (io), 11 PWM2L/RE2 (io), 12 NC, 13 NC, 14 PWM1H/RE1 (io), 15 PWM1L/RE0 (io), 16 AVSS (power), 17 AVDD (power), 18 ~{MCLR} (in), 19 EMUD3/AN0/VREF+/CN2/RB0 (io), 20 EMUC3/AN1/VREF-/CN3/RB1 (io), 21 AN2/~{SS1}/CN4/RB2 (io), 22 AN3/INDX/CN5/RB3 (io), 23 AN4/QEA/IC7/CN6/RB4 (io), 24 AN5/QEB/IC8/CN7/RB5 (io), 25 AN6/OCFA/RB6 (io), 26 AN7/RB7 (io), 27 AN8/RB8 (io), 28 VDD (power), 29 VSS (power), 30 OSC1/CLKI (in), 31 OSC2/CLKO/RC15 (io), 32 EMUD1/SOSCI/T2CK/U1ATX/CN1/RC13 (io), 33 NC, 34 NC, 35 EMUC1/SOSCO/T1CK/U1ARX/CN0/RC14 (io), 36 ~{FLTA}/INT0/RE8 (io), 37 EMUD2/OC2/IC2/INT2/RD1 (io), 38 OC4/RD3 (io), 39 VSS (power), 40 VDD (power), 41 OC3/RD2 (io), 42 EMUC2/OC1/IC1/INT1/RD0 (io), 43 SCK1/RF6 (io), 44 PGD/EMUD/U1TX/SDO1/SCL/RF3 (io)

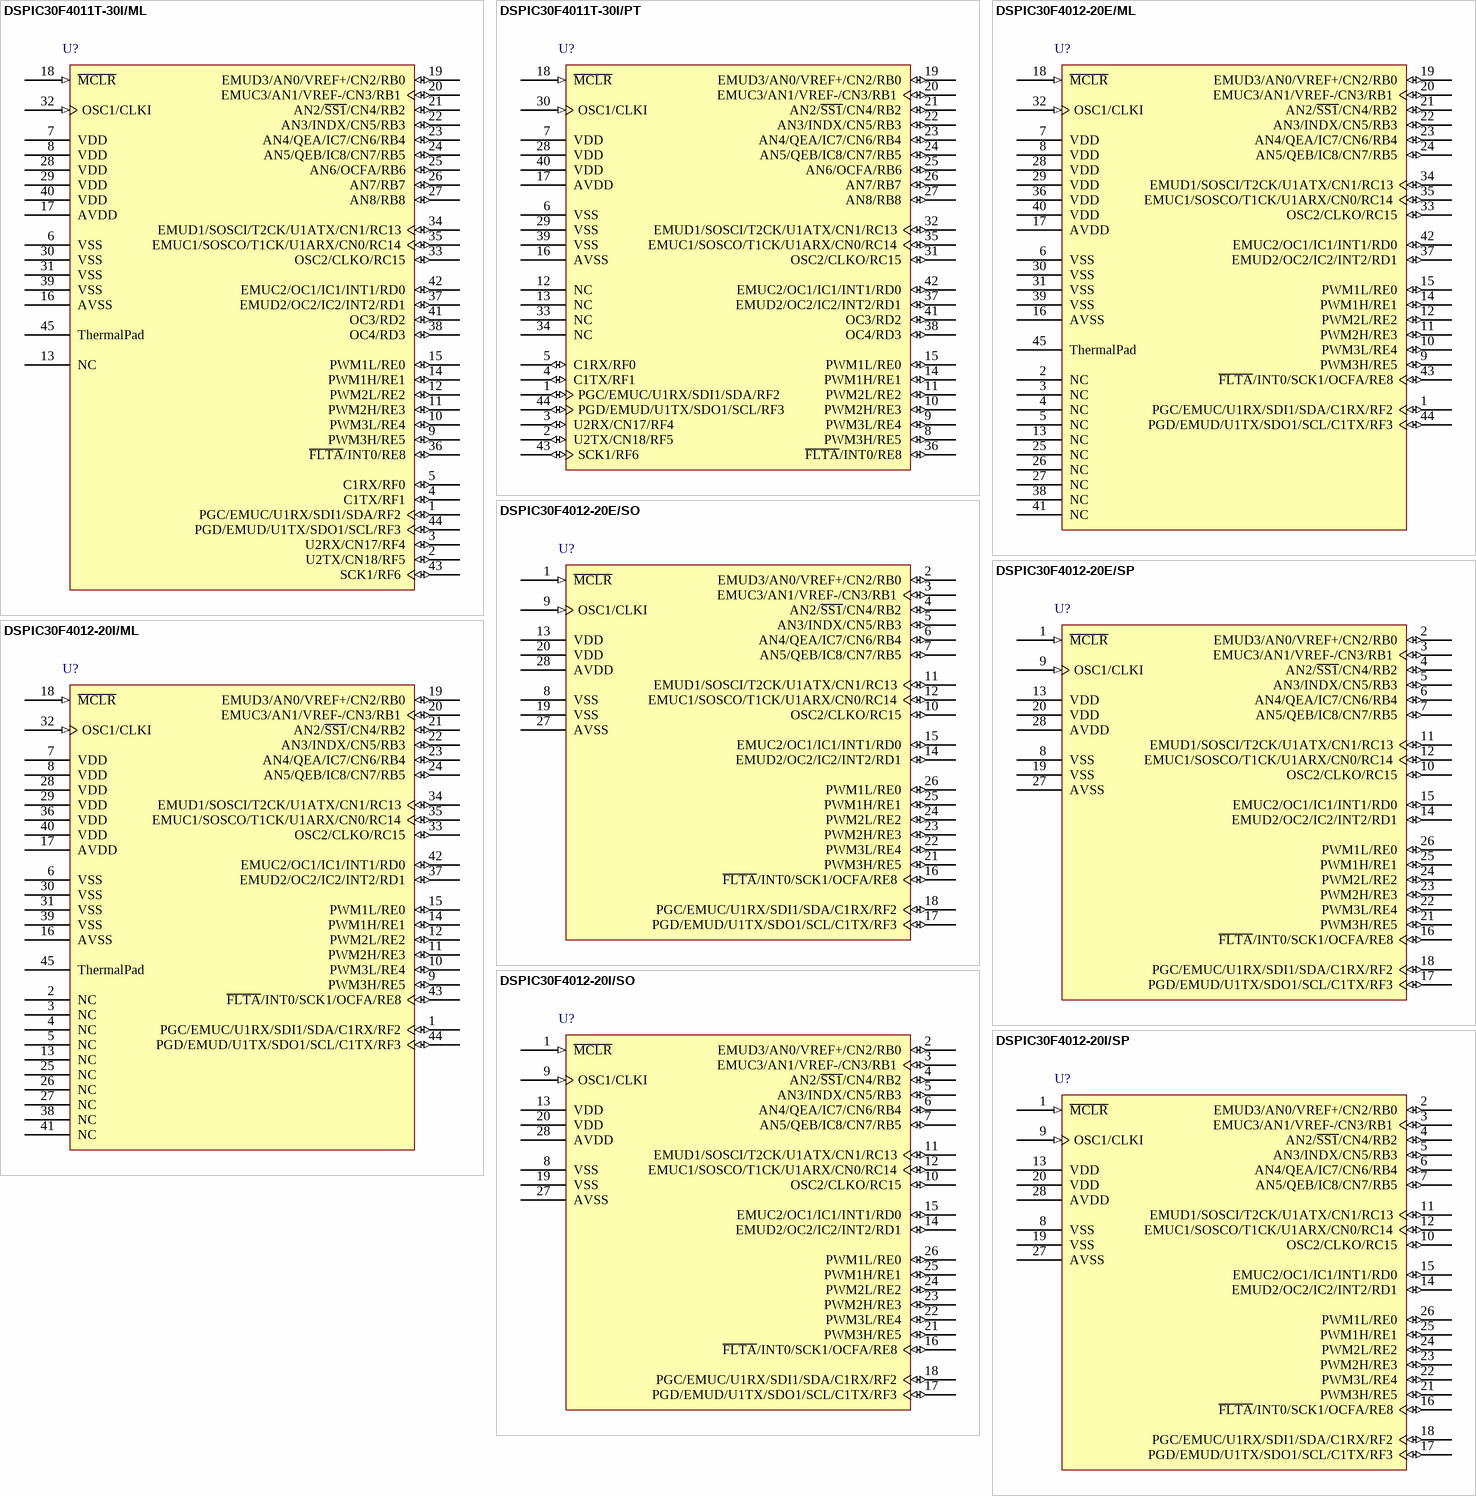
[diagram p21: symbols DSPIC30F4011T-30I/ML to DSPIC30F4012-20I/SP]

## DSPIC30F4011T-30I/ML
designator U?
High-Performance 16-bit Digital Signal Controller, 48 KB Flash, 2 KB SRAM, 1 KB EEPROM, 44-Pin QFN, Industrial Temperature, Tape and Reel; Manufacturer: Microchip; PartNumber: DSPIC30F4011T-30I/ML; DatasheetVersion: revF, Jul-2008; PackageVersion: revBB, Aug-2009; PackageReference: QFN-ML44; PackageDescription: 44-Lead Plastic Quad Flat, No Lead Package (ML) - 8x8 mm Body [QFN]; Supplier 1: Digi-Key; Supplier Part Number 1: DSPIC30F4011T30IM-ND; Supplier 2: Mouser; Supplier Part Number 2: 579-30F4011T-30I/ML; Mounting Technology: Surface Mount; Code_JEDEC: MO-220; Code_IPC: QFN65P800X800-44V2; ComponentLink1Description: Manufacturer URL; ComponentLink1URL: http://www.microchip.com/; ComponentLink2Description: Datasheet; ComponentLink2URL: http://ww1.microchip.com/downloads/en/DeviceDoc/70135F.pdf; ComponentLink3Description: Package Specification; ComponentLink3URL: http://www.microchip.com/stellent/groups/techpub_sg/documents/packagingspec/en012702.pdf
footprint QFN-ML44_N (QFN, 44-Leads, Body 8x8mm, Pitch 0.65mm, Thermal Pad 6.8x6.8mm, IPC Medium Density)
footprint QFN-ML44_L (QFN, 44-Leads, Body 8x8mm, Pitch 0.65mm, Thermal Pad 6.8x6.8mm, IPC High Density)
footprint QFN-ML44_M (QFN, 44-Leads, Body 8x8mm, Pitch 0.65mm, Thermal Pad 6.8x6.8mm, IPC Low Density)
pins: 1 PGC/EMUC/U1RX/SDI1/SDA/RF2 (io), 2 U2TX/CN18/RF5 (io), 3 U2RX/CN17/RF4 (io), 4 C1TX/RF1 (io), 5 C1RX/RF0 (io), 6 VSS (power), 7 VDD (power), 8 VDD (power), 9 PWM3H/RE5 (io), 10 PWM3L/RE4 (io), 11 PWM2H/RE3 (io), 12 PWM2L/RE2 (io), 13 NC, 14 PWM1H/RE1 (io), 15 PWM1L/RE0 (io), 16 AVSS (power), 17 AVDD (power), 18 ~{MCLR} (in), 19 EMUD3/AN0/VREF+/CN2/RB0 (io), 20 EMUC3/AN1/VREF-/CN3/RB1 (io), 21 AN2/~{SS1}/CN4/RB2 (io), 22 AN3/INDX/CN5/RB3 (io), 23 AN4/QEA/IC7/CN6/RB4 (io), 24 AN5/QEB/IC8/CN7/RB5 (io), 25 AN6/OCFA/RB6 (io), 26 AN7/RB7 (io), 27 AN8/RB8 (io), 28 VDD (power), 29 VDD (power), 30 VSS (power), 31 VSS (power), 32 OSC1/CLKI (in), 33 OSC2/CLKO/RC15 (io), 34 EMUD1/SOSCI/T2CK/U1ATX/CN1/RC13 (io), 35 EMUC1/SOSCO/T1CK/U1ARX/CN0/RC14 (io), 36 ~{FLTA}/INT0/RE8 (io), 37 EMUD2/OC2/IC2/INT2/RD1 (io), 38 OC4/RD3 (io), 39 VSS (power), 40 VDD (power), 41 OC3/RD2 (io), 42 EMUC2/OC1/IC1/INT1/RD0 (io), 43 SCK1/RF6 (io), 44 PGD/EMUD/U1TX/SDO1/SCL/RF3 (io), 45 ThermalPad

## DSPIC30F4011T-30I/PT
designator U?
High-Performance 16-bit Digital Signal Controller, 48 KB Flash, 2 KB SRAM, 1 KB EEPROM, 44-Pin TQFP, Industrial Temperature, Tape and Reel; Manufacturer: Microchip; PartNumber: DSPIC30F4011T-30I/PT; DatasheetVersion: revF, Jul-2008; PackageVersion: revBB, Aug-2009; PackageReference: TQFP-PT44; PackageDescription: 44-Lead Plastic Thin Quad Flatpack (PT) - 10x10x1mm Body, 2.00mm [TQFP]; Supplier 1: Digi-Key; Supplier Part Number 1: DSPIC30F4011T30IP-ND; Supplier 2: Mouser; Supplier Part Number 2: 579-30F4011T-30I/PT; Mounting Technology: Surface Mount; Code_JEDEC: MS-026; ComponentLink1Description: Manufacturer URL; ComponentLink1URL: http://www.microchip.com/; ComponentLink2Description: Datasheet; ComponentLink2URL: http://ww1.microchip.com/downloads/en/DeviceDoc/70135F.pdf; ComponentLink3Description: Package Specification; ComponentLink3URL: http://www.microchip.com/stellent/groups/techpub_sg/documents/packagingspec/en012702.pdf
footprint TQFP-PT44_N (Thin QFP, 44-Leads, Body 10x10mm, Pitch 0.8mm, IPC Medium Density)
footprint TQFP-PT44_L (Thin QFP, 44-Leads, Body 10x10mm, Pitch 0.8mm, IPC High Density)
footprint TQFP-PT44_M (Thin QFP, 44-Leads, Body 10x10mm, Pitch 0.8mm, IPC Low Density)
pins: 1 PGC/EMUC/U1RX/SDI1/SDA/RF2 (io), 2 U2TX/CN18/RF5 (io), 3 U2RX/CN17/RF4 (io), 4 C1TX/RF1 (io), 5 C1RX/RF0 (io), 6 VSS (power), 7 VDD (power), 8 PWM3H/RE5 (io), 9 PWM3L/RE4 (io), 10 PWM2H/RE3 (io), 11 PWM2L/RE2 (io), 12 NC, 13 NC, 14 PWM1H/RE1 (io), 15 PWM1L/RE0 (io), 16 AVSS (power), 17 AVDD (power), 18 ~{MCLR} (in), 19 EMUD3/AN0/VREF+/CN2/RB0 (io), 20 EMUC3/AN1/VREF-/CN3/RB1 (io), 21 AN2/~{SS1}/CN4/RB2 (io), 22 AN3/INDX/CN5/RB3 (io), 23 AN4/QEA/IC7/CN6/RB4 (io), 24 AN5/QEB/IC8/CN7/RB5 (io), 25 AN6/OCFA/RB6 (io), 26 AN7/RB7 (io), 27 AN8/RB8 (io), 28 VDD (power), 29 VSS (power), 30 OSC1/CLKI (in), 31 OSC2/CLKO/RC15 (io), 32 EMUD1/SOSCI/T2CK/U1ATX/CN1/RC13 (io), 33 NC, 34 NC, 35 EMUC1/SOSCO/T1CK/U1ARX/CN0/RC14 (io), 36 ~{FLTA}/INT0/RE8 (io), 37 EMUD2/OC2/IC2/INT2/RD1 (io), 38 OC4/RD3 (io), 39 VSS (power), 40 VDD (power), 41 OC3/RD2 (io), 42 EMUC2/OC1/IC1/INT1/RD0 (io), 43 SCK1/RF6 (io), 44 PGD/EMUD/U1TX/SDO1/SCL/RF3 (io)

## DSPIC30F4012-20E/ML
designator U?
High-Performance 16-bit Digital Signal Controller, 48 KB Flash, 2 KB SRAM, 1 KB EEPROM, 44-Pin QFN, Extended High Temperature; Manufacturer: Microchip; PartNumber: DSPIC30F4012-20E/ML; DatasheetVersion: revF, Jul-2008; PackageVersion: revBB, Aug-2009; PackageReference: QFN-ML44; PackageDescription: 44-Lead Plastic Quad Flat, No Lead Package (ML) - 8x8 mm Body [QFN]; Supplier 1: Digi-Key; Supplier Part Number 1: DSPIC30F401220EML-ND; Supplier 2: Mouser; Supplier Part Number 2: 579-DS30F401220EML; Mounting Technology: Surface Mount; Code_JEDEC: MO-220; Code_IPC: QFN65P800X800-44V2; ComponentLink1Description: Manufacturer URL; ComponentLink1URL: http://www.microchip.com/; ComponentLink2Description: Datasheet; ComponentLink2URL: http://ww1.microchip.com/downloads/en/DeviceDoc/70135F.pdf; ComponentLink3Description: Package Specification; ComponentLink3URL: http://www.microchip.com/stellent/groups/techpub_sg/documents/packagingspec/en012702.pdf
footprint QFN-ML44_N (QFN, 44-Leads, Body 8x8mm, Pitch 0.65mm, Thermal Pad 6.8x6.8mm, IPC Medium Density)
footprint QFN-ML44_L (QFN, 44-Leads, Body 8x8mm, Pitch 0.65mm, Thermal Pad 6.8x6.8mm, IPC High Density)
footprint QFN-ML44_M (QFN, 44-Leads, Body 8x8mm, Pitch 0.65mm, Thermal Pad 6.8x6.8mm, IPC Low Density)
pins: 1 PGC/EMUC/U1RX/SDI1/SDA/C1RX/RF2 (io), 2 NC, 3 NC, 4 NC, 5 NC, 6 VSS (power), 7 VDD (power), 8 VDD (power), 9 PWM3H/RE5 (io), 10 PWM3L/RE4 (io), 11 PWM2H/RE3 (io), 12 PWM2L/RE2 (io), 13 NC, 14 PWM1H/RE1 (io), 15 PWM1L/RE0 (io), 16 AVSS (power), 17 AVDD (power), 18 ~{MCLR} (in), 19 EMUD3/AN0/VREF+/CN2/RB0 (io), 20 EMUC3/AN1/VREF-/CN3/RB1 (io), 21 AN2/~{SS1}/CN4/RB2 (io), 22 AN3/INDX/CN5/RB3 (io), 23 AN4/QEA/IC7/CN6/RB4 (io), 24 AN5/QEB/IC8/CN7/RB5 (io), 25 NC, 26 NC, 27 NC, 28 VDD (power), 29 VDD (power), 30 VSS (power), 31 VSS (power), 32 OSC1/CLKI (in), 33 OSC2/CLKO/RC15 (io), 34 EMUD1/SOSCI/T2CK/U1ATX/CN1/RC13 (io), 35 EMUC1/SOSCO/T1CK/U1ARX/CN0/RC14 (io), 36 VDD (power), 37 EMUD2/OC2/IC2/INT2/RD1 (io), 38 NC, 39 VSS (power), 40 VDD (power), 41 NC, 42 EMUC2/OC1/IC1/INT1/RD0 (io), 43 ~{FLTA}/INT0/SCK1/OCFA/RE8 (io), 44 PGD/EMUD/U1TX/SDO1/SCL/C1TX/RF3 (io), 45 ThermalPad

## DSPIC30F4012-20E/SO
designator U?
High-Performance 16-bit Digital Signal Controller, 48 KB Flash, 2 KB SRAM, 1 KB EEPROM, 28-Pin SOIC, Extended High Temperature; Manufacturer: Microchip; PartNumber: DSPIC30F4012-20E/SO; DatasheetVersion: revF, Jul-2008; PackageVersion: revBB, Aug-2009; PackageReference: SOIC-SO28; PackageDescription: 28-Lead Plastic Small Outline (SO) - Wide 7.50mm Body [SOIC]; Supplier 1: Digi-Key; Supplier Part Number 1: DSPIC30F401220ESO-ND; Supplier 2: Mouser; Supplier Part Number 2: 579-30F4012-20E/SO; Mounting Technology: Surface Mount; Code_JEDEC: MS-013; ComponentLink1Description: Manufacturer URL; ComponentLink1URL: http://www.microchip.com/; ComponentLink2Description: Datasheet; ComponentLink2URL: http://ww1.microchip.com/downloads/en/DeviceDoc/70135F.pdf; ComponentLink3Description: Package Specification; ComponentLink3URL: http://www.microchip.com/stellent/groups/techpub_sg/documents/packagingspec/en012702.pdf
footprint SOIC-SO28_N (SOIC, 28-Leads, Body 17.9x7.5mm, Pitch 1.27mm, IPC Medium Density)
footprint SOIC-SO28_L (SOIC, 28-Leads, Body 17.9x7.5mm, Pitch 1.27mm, IPC High Density)
footprint SOIC-SO28_M (SOIC, 28-Leads, Body 17.9x7.5mm, Pitch 1.27mm, IPC Low Density)
pins: 1 ~{MCLR} (in), 2 EMUD3/AN0/VREF+/CN2/RB0 (io), 3 EMUC3/AN1/VREF-/CN3/RB1 (io), 4 AN2/~{SS1}/CN4/RB2 (io), 5 AN3/INDX/CN5/RB3 (io), 6 AN4/QEA/IC7/CN6/RB4 (io), 7 AN5/QEB/IC8/CN7/RB5 (io), 8 VSS (power), 9 OSC1/CLKI (in), 10 OSC2/CLKO/RC15 (io), 11 EMUD1/SOSCI/T2CK/U1ATX/CN1/RC13 (io), 12 EMUC1/SOSCO/T1CK/U1ARX/CN0/RC14 (io), 13 VDD (power), 14 EMUD2/OC2/IC2/INT2/RD1 (io), 15 EMUC2/OC1/IC1/INT1/RD0 (io), 16 ~{FLTA}/INT0/SCK1/OCFA/RE8 (io), 17 PGD/EMUD/U1TX/SDO1/SCL/C1TX/RF3 (io), 18 PGC/EMUC/U1RX/SDI1/SDA/C1RX/RF2 (io), 19 VSS (power), 20 VDD (power), 21 PWM3H/RE5 (io), 22 PWM3L/RE4 (io), 23 PWM2H/RE3 (io), 24 PWM2L/RE2 (io), 25 PWM1H/RE1 (io), 26 PWM1L/RE0 (io), 27 AVSS (power), 28 AVDD (power)

## DSPIC30F4012-20E/SP
designator U?
High-Performance 16-bit Digital Signal Controller, 48 KB Flash, 2 KB SRAM, 1 KB EEPROM, 28-Pin SPDIP, Extended High Temperature; Manufacturer: Microchip; PartNumber: DSPIC30F4012-20E/SP; DatasheetVersion: revF, Jul-2008; PackageVersion: revBB, Aug-2009; PackageReference: SPDIP300-SP28; PackageDescription: 28-Lead Skinny Plastic Dual In-Line (SP) - 300 mil Body [SPDIP]; Supplier 1: Digi-Key; Supplier Part Number 1: DSPIC30F401220ESP-ND; Supplier 2: Mouser; Supplier Part Number 2: 579-30F4012-20E/SP; Mounting Technology: Through Hole; ComponentLink1Description: Manufacturer URL; ComponentLink1URL: http://www.microchip.com/; ComponentLink2Description: Datasheet; ComponentLink2URL: http://ww1.microchip.com/downloads/en/DeviceDoc/70135F.pdf; ComponentLink3Description: Package Specification; ComponentLink3URL: http://www.microchip.com/stellent/groups/techpub_sg/documents/packagingspec/en012702.pdf
footprint SPDIP300-SP28 (DIP, 28-Leads, Row Spacing 7.62mm, Pitch 2.54mm, Body 34.9x6.8mm)
pins: 1 ~{MCLR} (in), 2 EMUD3/AN0/VREF+/CN2/RB0 (io), 3 EMUC3/AN1/VREF-/CN3/RB1 (io), 4 AN2/~{SS1}/CN4/RB2 (io), 5 AN3/INDX/CN5/RB3 (io), 6 AN4/QEA/IC7/CN6/RB4 (io), 7 AN5/QEB/IC8/CN7/RB5 (io), 8 VSS (power), 9 OSC1/CLKI (in), 10 OSC2/CLKO/RC15 (io), 11 EMUD1/SOSCI/T2CK/U1ATX/CN1/RC13 (io), 12 EMUC1/SOSCO/T1CK/U1ARX/CN0/RC14 (io), 13 VDD (power), 14 EMUD2/OC2/IC2/INT2/RD1 (io), 15 EMUC2/OC1/IC1/INT1/RD0 (io), 16 ~{FLTA}/INT0/SCK1/OCFA/RE8 (io), 17 PGD/EMUD/U1TX/SDO1/SCL/C1TX/RF3 (io), 18 PGC/EMUC/U1RX/SDI1/SDA/C1RX/RF2 (io), 19 VSS (power), 20 VDD (power), 21 PWM3H/RE5 (io), 22 PWM3L/RE4 (io), 23 PWM2H/RE3 (io), 24 PWM2L/RE2 (io), 25 PWM1H/RE1 (io), 26 PWM1L/RE0 (io), 27 AVSS (power), 28 AVDD (power)

## DSPIC30F4012-20I/ML
designator U?
High-Performance 16-bit Digital Signal Controller, 48 KB Flash, 2 KB SRAM, 1 KB EEPROM, 44-Pin QFN, Industrial Temperature; Manufacturer: Microchip; PartNumber: DSPIC30F4012-20I/ML; DatasheetVersion: revF, Jul-2008; PackageVersion: revBB, Aug-2009; PackageReference: QFN-ML44; PackageDescription: 44-Lead Plastic Quad Flat, No Lead Package (ML) - 8x8 mm Body [QFN]; Supplier 1: Digi-Key; Supplier Part Number 1: DSPIC30F401220IML-ND; Supplier 2: Newark; Supplier Part Number 2: 71J3758; Supplier 3: Mouser; Supplier Part Number 3: 579-DS30F401220IML; Mounting Technology: Surface Mount; Code_JEDEC: MO-220; Code_IPC: QFN65P800X800-44V2; ComponentLink1Description: Manufacturer URL; ComponentLink1URL: http://www.microchip.com/; ComponentLink2Description: Datasheet; ComponentLink2URL: http://ww1.microchip.com/downloads/en/DeviceDoc/70135F.pdf; ComponentLink3Description: Package Specification; ComponentLink3URL: http://www.microchip.com/stellent/groups/techpub_sg/documents/packagingspec/en012702.pdf
footprint QFN-ML44_N (QFN, 44-Leads, Body 8x8mm, Pitch 0.65mm, Thermal Pad 6.8x6.8mm, IPC Medium Density)
footprint QFN-ML44_L (QFN, 44-Leads, Body 8x8mm, Pitch 0.65mm, Thermal Pad 6.8x6.8mm, IPC High Density)
footprint QFN-ML44_M (QFN, 44-Leads, Body 8x8mm, Pitch 0.65mm, Thermal Pad 6.8x6.8mm, IPC Low Density)
pins: 1 PGC/EMUC/U1RX/SDI1/SDA/C1RX/RF2 (io), 2 NC, 3 NC, 4 NC, 5 NC, 6 VSS (power), 7 VDD (power), 8 VDD (power), 9 PWM3H/RE5 (io), 10 PWM3L/RE4 (io), 11 PWM2H/RE3 (io), 12 PWM2L/RE2 (io), 13 NC, 14 PWM1H/RE1 (io), 15 PWM1L/RE0 (io), 16 AVSS (power), 17 AVDD (power), 18 ~{MCLR} (in), 19 EMUD3/AN0/VREF+/CN2/RB0 (io), 20 EMUC3/AN1/VREF-/CN3/RB1 (io), 21 AN2/~{SS1}/CN4/RB2 (io), 22 AN3/INDX/CN5/RB3 (io), 23 AN4/QEA/IC7/CN6/RB4 (io), 24 AN5/QEB/IC8/CN7/RB5 (io), 25 NC, 26 NC, 27 NC, 28 VDD (power), 29 VDD (power), 30 VSS (power), 31 VSS (power), 32 OSC1/CLKI (in), 33 OSC2/CLKO/RC15 (io), 34 EMUD1/SOSCI/T2CK/U1ATX/CN1/RC13 (io), 35 EMUC1/SOSCO/T1CK/U1ARX/CN0/RC14 (io), 36 VDD (power), 37 EMUD2/OC2/IC2/INT2/RD1 (io), 38 NC, 39 VSS (power), 40 VDD (power), 41 NC, 42 EMUC2/OC1/IC1/INT1/RD0 (io), 43 ~{FLTA}/INT0/SCK1/OCFA/RE8 (io), 44 PGD/EMUD/U1TX/SDO1/SCL/C1TX/RF3 (io), 45 ThermalPad